# Altium schematic symbol library GRT155R61E474KE01D.Schlib: 1 symbol
Pins are listed as number, name and electrical type; pins without a type are passive.

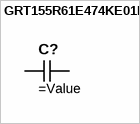
[diagram p0: symbol GRT155R61E474KE01D]

## GRT155R61E474KE01D
designator C?
CAP CER 0.47UF 25V X5R 0402
pins: 1, 2 1